# Altium schematic symbol library CAP 220pF 16V.Schlib: 1 symbol
Pins are listed as number, name and electrical type; pins without a type are passive.

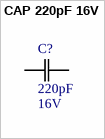
[diagram p0: symbol CAP 220pF 16V]

## CAP 220pF 16V
designator C?, comment Rating: 16V  (hidden comment: 220pF)
CAP CER 220PF 16V X5R 0603/0805; Tolerance: 10%; Package: 0603/0805; Temperature Coefficient: X5R; Operating Temperature: -55°C ~ 85°C; Value: 220pF
footprint 0603
footprint 0805
pins: 1 C1, 2 C2